# EAGLE library part INA2180 (library shepherd)
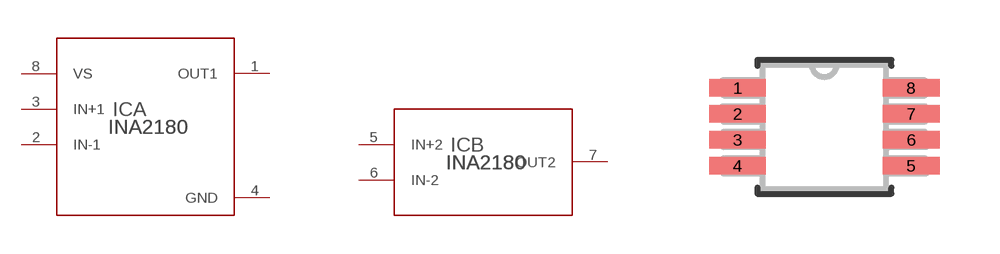
[diagram p5: symbol with the pads of DGK8; footprint DGK8]

Designator prefix IC; gates A=INA2180_A1 B=INA2180_A2

## INA2180  [DGK8]
1  A:OUT1  out
2  A:IN-1  in
3  A:IN+1  in
4  A:GND  pwr
5  B:IN+2  in
6  B:IN-2  in
7  B:OUT2  out
8  A:VS  pwr

## Footprint DGK8 (pad centres in mm)
smd 1.422 x 0.432: 1 -2.172,0.975; 2 -2.172,0.325; 3 -2.172,-0.325; 4 -2.172,-0.975; 5 2.172,-0.975; 6 2.172,-0.325; 7 2.172,0.325; 8 2.172,0.975